# Altium footprint library Altium LCOGT PCB LIB.PCBLIB: 329 footprints (part 19 of 21)
Each footprint in its own frame and in the unit in brackets; x right, y up, seen from the top. Pads: shape width x height; smd on the part's side, far side on the other; paste and mask are expansions set on the pad; w line width, h text height; cw(c..) or ccw(c..) is an arc to the next point about the centre after c.
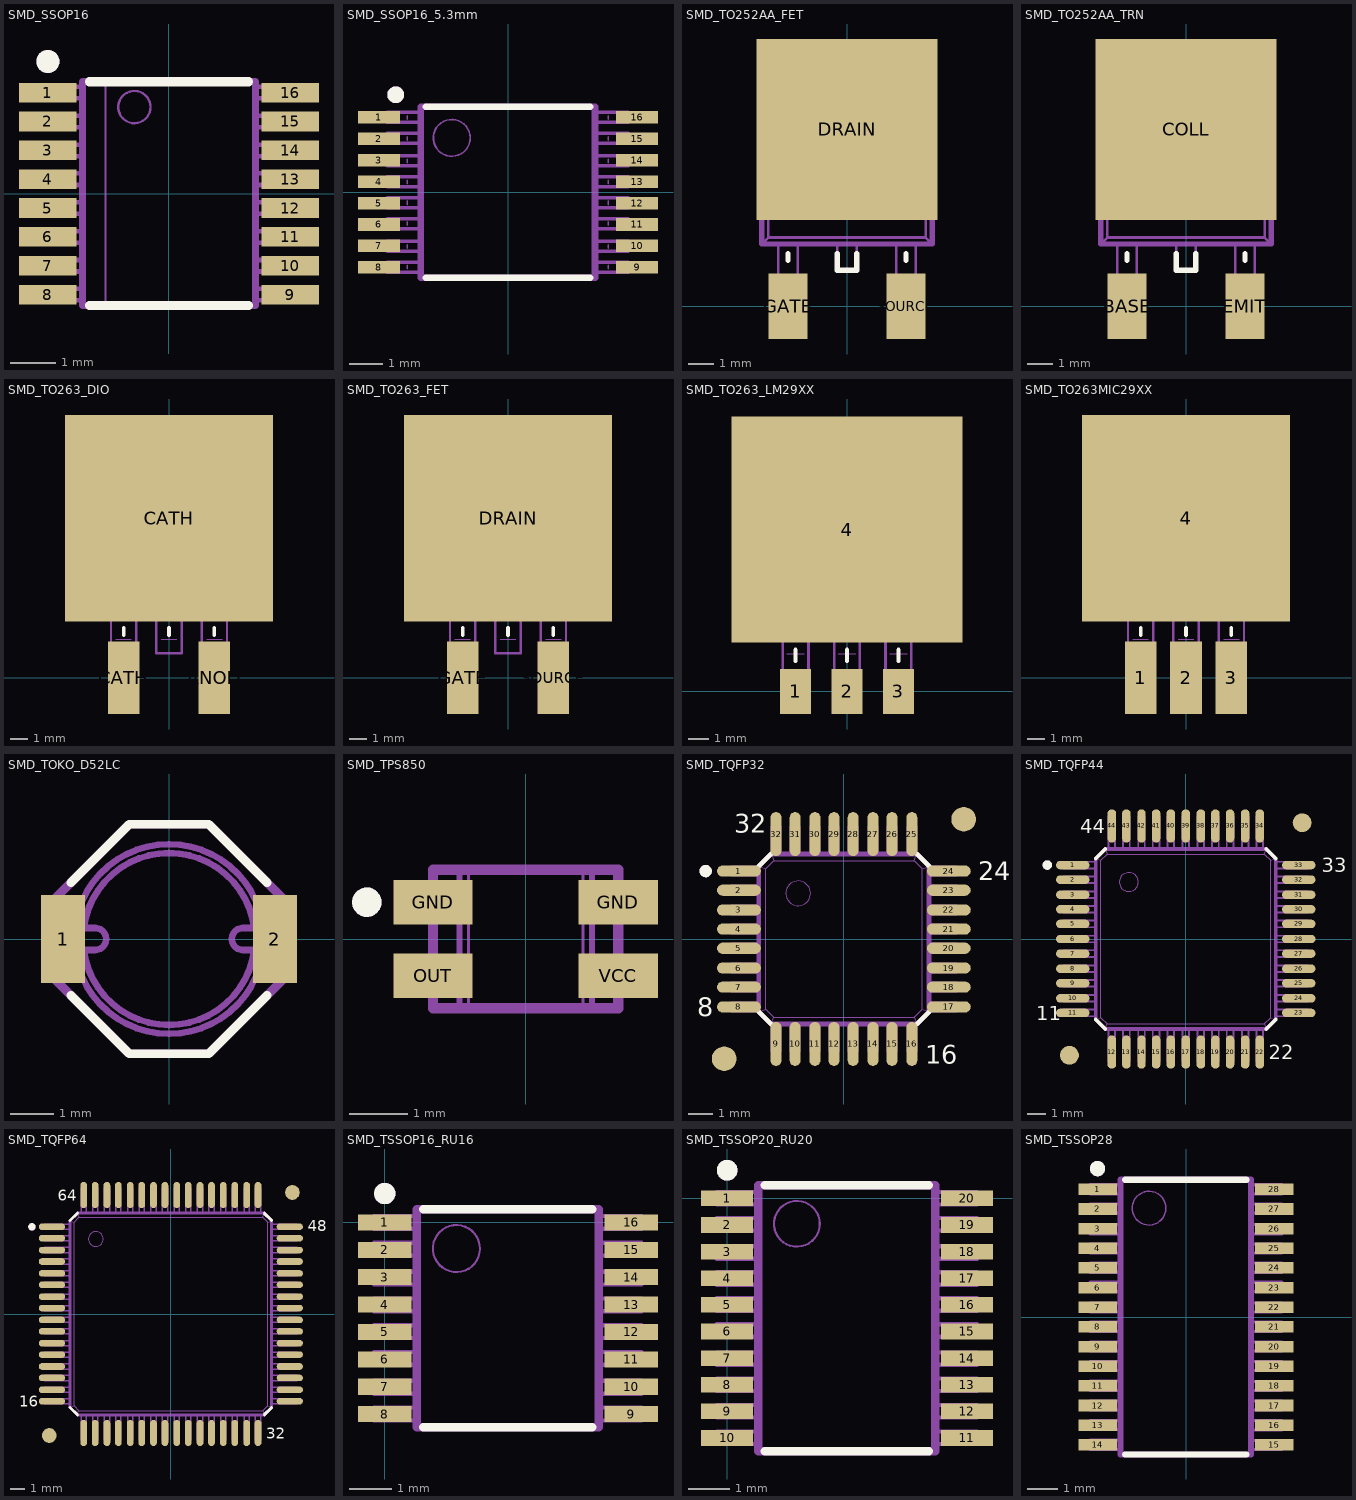
[diagram p18: the footprints below, top view; thin cyan lines are the x and y axes]

## SMD_SSOP16 [mil]
pads (16):
  rect 50x17 smd: 1(-105,87.5) 2(-105,62.5) 3(-105,37.5) 4(-105,12.5) 5(-105,-12.5) 6(-105,-37.5) 7(-105,-62.5) 8(-105,-87.5) 9(105,-87.5) 10(105,-62.5) 11(105,-37.5) 12(105,-12.5) 13(105,12.5) 14(105,37.5) 15(105,62.5) 16(105,87.5)
TopOverlay:
  circle w8: c-105,114.5 r6
  lines w8: -109,114.5 -101,114.5 ; -105,110.5 -105,118.5 ; -69,-97 69,-97 ; -69,97 69,97
Mechanical3:
  circle w2: c-30,75 r14
  circle w8: c-105,114.5 r6
  lines w2: -103,-88.5 -103,-86.5 ; -103,-63.5 -103,-61.5 ; -103,-38.5 -103,-36.5 ; -103,-13.5 -103,-11.5 ; -103,11.5 -103,13.5 ; -103,36.5 -103,38.5 ; -103,61.5 -103,63.5 ; -103,86.5 -103,88.5 ; -91,-88.5 -91,-86.5 ; -91,-63.5 -91,-61.5 ; -91,-38.5 -91,-36.5 ; -91,-13.5 -91,-11.5 ; -91,11.5 -91,13.5 ; -91,36.5 -91,38.5 ; -91,61.5 -91,63.5 ; -91,86.5 -91,88.5 ; -55,-97 -55,97 ; 91,-88.5 91,-86.5 ; 91,-63.5 91,-61.5 ; 91,-38.5 91,-36.5 ; 91,-13.5 91,-11.5 ; 91,11.5 91,13.5 ; 91,36.5 91,38.5 ; 91,61.5 91,63.5 ; 91,86.5 91,88.5 ; 103,-88.5 103,-86.5 ; 103,-63.5 103,-61.5 ; 103,-38.5 103,-36.5 ; 103,-13.5 103,-11.5 ; 103,11.5 103,13.5 ; 103,36.5 103,38.5 ; 103,61.5 103,63.5 ; 103,86.5 103,88.5
  lines w4: -75,-92.5 -118,-92.5 -118,-82.5 -75,-82.5 ; -75,-67.5 -118,-67.5 -118,-57.5 -75,-57.5 ; -75,-42.5 -118,-42.5 -118,-32.5 -75,-32.5 ; -75,-17.5 -118,-17.5 -118,-7.5 -75,-7.5 ; -75,7.5 -118,7.5 -118,17.5 -75,17.5 ; -75,32.5 -118,32.5 -118,42.5 -75,42.5 ; -75,57.5 -118,57.5 -118,67.5 -75,67.5 ; -75,82.5 -118,82.5 -118,92.5 -75,92.5 ; 75,-92.5 118,-92.5 118,-82.5 75,-82.5 ; 75,-67.5 118,-67.5 118,-57.5 75,-57.5 ; 75,-42.5 118,-42.5 118,-32.5 75,-32.5 ; 75,-17.5 118,-17.5 118,-7.5 75,-7.5 ; 75,7.5 118,7.5 118,17.5 75,17.5 ; 75,32.5 118,32.5 118,42.5 75,42.5 ; 75,57.5 118,57.5 118,67.5 75,67.5 ; 75,82.5 118,82.5 118,92.5 75,92.5
  lines w6: -75,-97 -75,97 75,97 75,-97 -75,-97
  lines w8: -109,114.5 -101,114.5 ; -105,110.5 -105,118.5

## SMD_SSOP16_5.3mm [mil]
pads (16):
  rect 50x15 smd: 1(-154.16,89.57) 2(-154.16,63.98) 3(-154.16,38.39) 4(-154.16,12.8) 5(-154.16,-12.8) 6(-154.16,-38.39) 7(-154.16,-63.98) 8(-154.16,-89.57) 9(154.16,-89.57) 10(154.16,-63.98) 11(154.16,-38.39) 12(154.16,-12.79) 13(154.16,12.79) 14(154.16,38.39) 15(154.16,63.98) 16(154.16,89.57)
TopOverlay:
  circle w8: c-134.16,116.57 r6
  lines w8: -138.16,116.57 -130.16,116.57 ; -134.16,112.57 -134.16,120.57 ; -98.16,-101.93 97.84,-101.93 ; -98.16,102.07 97.84,102.07
Mechanical3:
  circle w2: c-67.16,65.07 r22
  circle w8: c-134.16,116.57 r6
  lines w2: -131.16,-91.43 -131.16,-87.43 ; -131.16,-66.43 -131.16,-62.43 ; -131.16,-39.43 -131.16,-35.43 ; -131.16,-14.43 -131.16,-10.43 ; -131.16,10.57 -131.16,14.57 ; -131.16,35.57 -131.16,39.57 ; -131.16,62.57 -131.16,66.57 ; -131.16,87.57 -131.16,91.57 ; -120.16,-91.43 -120.16,-87.43 ; -120.16,-66.43 -120.16,-62.43 ; -120.16,-39.43 -120.16,-35.43 ; -120.16,-14.43 -120.16,-10.43 ; -120.16,10.57 -120.16,14.57 ; -120.16,35.57 -120.16,39.57 ; -120.16,62.57 -120.16,66.57 ; -120.16,87.57 -120.16,91.57 ; 119.84,-91.43 119.84,-87.43 ; 119.84,-66.43 119.84,-62.43 ; 119.84,-39.43 119.84,-35.43 ; 119.84,-14.43 119.84,-10.43 ; 119.84,10.57 119.84,14.57 ; 119.84,35.57 119.84,39.57 ; 119.84,62.57 119.84,66.57 ; 119.84,87.57 119.84,91.57 ; 130.84,-91.43 130.84,-87.43 ; 130.84,-66.43 130.84,-62.43 ; 130.84,-39.43 130.84,-35.43 ; 130.84,-14.43 130.84,-10.43 ; 130.84,10.57 130.84,14.57 ; 130.84,35.57 130.84,39.57 ; 130.84,62.57 130.84,66.57 ; 130.84,87.57 130.84,91.57
  lines w4: -104.16,-95.43 -144.16,-95.43 -144.16,-83.43 -104.16,-83.43 ; -104.16,-70.43 -144.16,-70.43 -144.16,-58.43 -104.16,-58.43 ; -104.16,-43.43 -144.16,-43.43 -144.16,-31.43 -104.16,-31.43 ; -104.16,-18.43 -144.16,-18.43 -144.16,-6.43 -104.16,-6.43 ; -104.16,6.57 -144.16,6.57 -144.16,18.57 -104.16,18.57 ; -104.16,31.57 -144.16,31.57 -144.16,43.57 -104.16,43.57 ; -104.16,58.57 -144.16,58.57 -144.16,70.57 -104.16,70.57 ; -104.16,83.57 -144.16,83.57 -144.16,95.57 -104.16,95.57 ; 103.84,-95.43 143.84,-95.43 143.84,-83.43 103.84,-83.43 ; 103.84,-70.43 143.84,-70.43 143.84,-58.43 103.84,-58.43 ; 103.84,-43.43 143.84,-43.43 143.84,-31.43 103.84,-31.43 ; 103.84,-18.43 143.84,-18.43 143.84,-6.43 103.84,-6.43 ; 103.84,6.57 143.84,6.57 143.84,18.57 103.84,18.57 ; 103.84,31.57 143.84,31.57 143.84,43.57 103.84,43.57 ; 103.84,58.57 143.84,58.57 143.84,70.57 103.84,70.57 ; 103.84,83.57 143.84,83.57 143.84,95.57 103.84,95.57
  lines w8: -138.16,116.57 -130.16,116.57 ; -134.16,112.57 -134.16,120.57 ; -104.16,-101.93 -61.66,-101.93 61.34,-101.93 103.84,-101.93 103.84,102.07 -104.16,102.07 -104.16,-101.93

## SMD_TO252AA_FET [mil]
pads (3):
  rect 276x276 smd: DRAIN(0,270)
  rect 60x100 smd: GATE(-90,0) SOURCE(90,0)
TopOverlay:
  lines w8: -90,70 -90,80 ; -15,80 -15,55 15,55 15,80 ; 90,70 90,80
Mechanical3:
  lines w4: -130,95 -120,105 ; -130,310 -120,305 ; -105,95 -105,40 -110,35 -110,15 -105,10 -105,-10 -75,-10 -75,10 -70,15 -70,35 -75,40 -75,95 ; -105,335 -100,325 ; -15,95 -15,55 15,55 15,95 ; 75,95 75,40 70,35 70,15 75,10 75,-10 105,-10 105,10 110,15 110,35 105,40 105,95 ; 105,335 100,325 ; 130,95 120,105 ; 130,310 120,305 ; -120,105 120,105 ; -120,105 -120,305 ; -120,305 -100,325 ; -100,325 100,325 ; 100,325 120,305 ; 120,105 120,305
  lines w8: -105,335 -105,360 -75,380 75,380 105,360 105,335 ; -105,335 105,335 ; -105,335 -130,310 -130,95 130,95 130,310 105,335

## SMD_TO252AA_TRN [mil]
pads (3):
  rect 60x100 smd: BASE(-90,0) EMIT(90,0)
  rect 276x276 smd: COLL(0,270)
TopOverlay:
  lines w8: -90,70 -90,80 ; -15,80 -15,55 15,55 15,80 ; 90,70 90,80
Mechanical3:
  lines w4: -130,95 -120,105 ; -130,310 -120,305 ; -105,95 -105,40 -110,35 -110,15 -105,10 -105,-10 -75,-10 -75,10 -70,15 -70,35 -75,40 -75,95 ; -105,335 -100,325 ; -15,95 -15,55 15,55 15,95 ; 75,95 75,40 70,35 70,15 75,10 75,-10 105,-10 105,10 110,15 110,35 105,40 105,95 ; 105,335 100,325 ; 130,95 120,105 ; 130,310 120,305 ; -120,105 -120,305 ; -120,105 120,105 ; -120,305 -100,325 ; -100,325 100,325 ; 100,325 120,305 ; 120,105 120,305
  lines w8: -105,335 -130,310 -130,95 130,95 130,310 105,335 ; -105,335 105,335 ; -105,335 -105,360 -75,380 75,380 105,360 105,335

## SMD_TO263_DIO [mil]
pads (3):
  rect 70x160 smd: ANOD(100,0) CATH(-100,0)
  rect 460x456 smd: CATH(0,352)
TopOverlay:
  lines w8: -100,94 -100,110 ; 0,94 0,110 ; 100,94 100,110
Mechanical3:
  lines w2: -117,30 -83,30 ; -117,85 -83,85 ; -17,85 17,85 ; 83,30 117,30 ; 83,85 117,85
  lines w5: -128,145 -128,-25 -117,-25 -117,-60 -83,-60 -83,-25 -72,-25 -72,145 ; -28,145 -28,54 28,54 ; 28,53.74 28,145 ; 72,145 72,-25 83,-25 83,-60 117,-60 117,-25 128,-25 128,145
  lines w6: -205,505 -185,480 ; -185,145 -185,480 ; 185,145 185,480 ; 205,505 185,480 ; -185,480 185,480
  lines w10: -205,505 205,505 ; -205,145 -205,525 -140,555 140,555 205,525 205,145 -205,145

## SMD_TO263_FET [mil]
pads (3):
  rect 460x456 smd: DRAIN(0,352)
  rect 70x160 smd: GATE(-100,0) SOURCE(100,0)
TopOverlay:
  lines w8: -100,94 -100,110 ; 0,94 0,110 ; 100,94 100,110
Mechanical3:
  lines w2: -117,30 -83,30 ; -117,85 -83,85 ; -17,85 17,85 ; 83,30 117,30 ; 83,85 117,85
  lines w5: -128,145 -128,-25 -117,-25 -117,-60 -83,-60 -83,-25 -72,-25 -72,145 ; -28,145 -28,54 28,54 ; 28,53.74 28,145 ; 72,145 72,-25 83,-25 83,-60 117,-60 117,-25 128,-25 128,145
  lines w6: -205,505 -185,480 ; -185,145 -185,480 ; 185,145 185,480 ; 205,505 185,480 ; -185,480 185,480
  lines w10: -205,505 205,505 ; -205,145 205,145 205,525 140,555 -140,555 -205,525 -205,145

## SMD_TO263_LM29XX [mil]
pads (4):
  rect 60x88 smd: 1(-100,0) 2(0,0) 3(100,0)
  rect 450x440 smd: 4(0,315)
TopOverlay:
  lines w8: -100,59 -100,81 ; 0,59 0,81 ; 100,59 100,81
Mechanical3:
  lines w2: -117,33 -83,33 ; -117,73 -83,73 ; -17,33 17,33 ; -17,73 17,73 ; 83,33 117,33 ; 83,73 117,73
  lines w5: -125,115 -125,33 -117,25 -117,-32 -83,-32 -83,25 -75,33 -75,115 ; -25,115 -25,33 -17,25 -17,-32 17,-32 17,25 25,33 25,115 ; 75,115 75,33 83,25 83,-32 117,-32 117,25 125,33 125,115
  lines w6: -200,445 -182,429 ; -182,115 -182,429 ; 182,115 182,429 ; 200,445 182,429 ; -182,429 182,429
  lines w10: -200,445 200,445 ; -200,115 200,115 200,480 125,510 -125,510 -200,480 -200,115

## SMD_TO263MIC29XX [mil]
pads (4):
  rect 70x160 smd: 1(-100,0) 2(0,0) 3(100,0)
  rect 460x456 smd: 4(0,352)
TopOverlay:
  lines w8: -100,94 -100,110 ; 0,94 0,110 ; 100,94 100,110
Mechanical3:
  lines w2: -117,30 -83,30 ; -117,85 -83,85 ; -17,30 17,30 ; -17,85 17,85 ; 83,30 117,30 ; 83,85 117,85
  lines w5: -128,145 -128,-25 -117,-25 -117,-60 -83,-60 -83,-25 -72,-25 -72,145 ; -28,145 -28,-25 -17,-25 -17,-60 17,-60 17,-25 28,-25 28,145 ; 72,145 72,-25 83,-25 83,-60 117,-60 117,-25 128,-25 128,145
  lines w6: -205,505 -185,480 ; -185,145 -185,480 ; 185,145 185,480 ; 205,505 185,480 ; -185,480 185,480
  lines w10: -205,505 205,505 ; -205,145 205,145 205,525 140,555 -140,555 -205,525 -205,145

## SMD_TOKO_D52LC [mil]
pads (2):
  rect 40x80 smd: 1(-96,0) 2(96,0)
TopOverlay:
  lines w8: -89,-51 -36,-104 36,-104 89,-51 ; -89,51 -36,104 36,104 89,51
Mechanical3:
  lines w6: -104,-34 -79,-34 ccw(c0,0) 78.99,-34.02 104,-34 ; -104,34 -79,34 cw(c0,0) 78.99,34.02 104,34 ; -77.37,-9.91 ccw(c0,0) 77.37,-9.91 ; -77.37,9.91 cw(c0,0) 77.37,9.91 ; -77,-10 -67,-10 ccw(c-67,0) -67,10 -77,10 ; 77,-10 67,-10 cw(c67,0) 67,10 77,10 ; -104,-30 -84,-30 -84,30 -104,30 -104,-30 ; 84,-30 104,-30 104,30 84,30 84,-30
  lines w8: -104,-34 -104,-36 -36,-104 36,-104 104,-36 104,-34 ; -104,34 -104,36 -36,104 36,104 104,36 104,34

## SMD_TPS850 [mil]
pads (4):
  rect 54x30 smd: GND(-63,25) GND(63,25) OUT(-63,-25) VCC(63,-25)
TopOverlay:
  circle w8: c-108,25 r6
  lines w8: -112,25 -104,25 ; -108,21 -108,29
Mechanical3:
  circle w8: c-108,25 r6
  lines w2: -39,-47 -39,47 ; 39,-47 39,47
  lines w4: -45,-47 -45,47 ; 45,-47 45,47
  lines w7: -63,-33 -63,-47 63,-47 63,-33 ; -63,-32.5 ccw(c-63,-25) -63,-17.5 -63,17.5 ccw(c-63,25) -63,32.5 ; -63,33 -63,47 63,47 63,33 ; 63,-32.5 cw(c63,-25) 63,-17.5 63,17.5 cw(c63,25) 63,32.5
  lines w8: -112,25 -104,25 ; -108,21 -108,29

## SMD_TQFP32 [mil]
pads (34):
  oval 71x18 smd: 1(-170,110) 2(-170,79) 3(-170,47) 4(-170,16) 5(-170,-15) 6(-170,-47) 7(-170,-78) 8(-170,-110) 17(170,-110) 18(170,-78) 19(170,-47) 20(170,-15) 21(170,16) 22(170,47) 23(170,79) 24(170,110)
  oval 18x71 smd: 9(-110,-170) 10(-79,-170) 11(-47,-170) 12(-16,-170) 13(15,-170) 14(47,-170) 15(78,-170) 16(110,-170) 25(110,170) 26(78,170) 27(47,170) 28(15,170) 29(-16,170) 30(-47,170) 31(-79,170) 32(-110,170)
  round 40 smd: ""(-194,-194) ""(194,194)
TopOverlay:
  circle w8: c-224,110 r6
  lines w8: -228,110 -220,110 ; -224,106 -224,114 ; -138,-118 -118,-138 ; -138,118 -118,138 ; 118,-138 138,-118 ; 118,138 138,118
  text "32" at -178,172 h30
  text "16" at 132,-202 h30
  text "24" at 218,95 h30
  text "8" at -238,-125 h30
Mechanical3:
  drawing of 188 lines, arcs and shapes, not listed

## SMD_TQFP44 [mil]
pads (46):
  oval 71x18 smd: 1(-240,157) 2(-240,126) 3(-240,94) 4(-240,63) 5(-240,32) 6(-240,0) 7(-240,-31) 8(-240,-63) 9(-240,-94) 10(-240,-126) 11(-240,-157) 23(240,-157) 24(240,-126) 25(240,-94) 26(240,-63) 27(240,-31) 28(240,0) 29(240,32) 30(240,63) 31(240,94) 32(240,126) 33(240,157)
  oval 18x71 smd: 12(-157,-240) 13(-126,-240) 14(-94,-240) 15(-63,-240) 16(-32,-240) 17(0,-240) 18(32,-240) 19(63,-240) 20(94,-240) 21(126,-240) 22(157,-240) 34(157,240) 35(126,240) 36(94,240) 37(63,240) 38(32,240) 39(0,240) 40(-32,240) 41(-63,240) 42(-94,240) 43(-126,240) 44(-157,240)
  round 40 smd: ""(-247,-247) ""(247,247)
TopOverlay:
  circle w8: c-294,157 r6
  lines w8: -298,157 -290,157 ; -294,153 -294,161 ; -191,-171 -171,-191 ; -191,171 -171,191 ; 171,-191 191,-171 ; 171,191 191,171
  text "44" at -224,225 h30
  text "22" at 176,-255 h30
  text "33" at 289,142 h30
  text "11" at -318,-172 h30
Mechanical3:
  drawing of 248 lines, arcs and shapes, not listed

## SMD_TQFP64 [mil]
pads (66):
  oval 71x18 smd: 1(-322,236) 2(-322,205) 3(-322,173) 4(-322,142) 5(-322,110) 6(-322,79) 7(-322,47) 8(-322,16) 9(-322,-16) 10(-322,-47) 11(-322,-79) 12(-322,-110) 13(-322,-142) 14(-322,-173) 15(-322,-205) 16(-322,-236) 33(322,-236) 34(322,-205) 35(322,-173) 36(322,-142) 37(322,-110) 38(322,-79) 39(322,-47) 40(322,-16) 41(322,16) 42(322,47) 43(322,79) 44(322,110) 45(322,142) 46(322,173) 47(322,205) 48(322,236)
  oval 18x71 smd: 17(-236,-322) 18(-205,-322) 19(-173,-322) 20(-142,-322) 21(-110,-322) 22(-79,-322) 23(-47,-322) 24(-16,-322) 25(16,-322) 26(47,-322) 27(79,-322) 28(110,-322) 29(142,-322) 30(173,-322) 31(205,-322) 32(236,-322) 49(236,322) 50(205,322) 51(173,322) 52(142,322) 53(110,322) 54(79,322) 55(47,322) 56(16,322) 57(-16,322) 58(-47,322) 59(-79,322) 60(-110,322) 61(-142,322) 62(-173,322) 63(-205,322) 64(-236,322)
  round 40 smd: ""(-329,-329) ""(329,329)
TopOverlay:
  circle w8: c-376,236 r6
  lines w8: -380,236 -372,236 ; -376,232 -376,240 ; -273,-253 -253,-273 ; -273,253 -253,273 ; 253,-273 273,-253 ; 253,273 273,253
  text "16" at -411,-251 h30
  text "48" at 371,224 h30
  text "32" at 258,-337 h30
  text "64" at -306,307 h30
Mechanical3:
  drawing of 348 lines, arcs and shapes, not listed

## SMD_TSSOP16_RU16 [mm]
pads (16):
  rect 1.27x0.381 smd: 1(0,0) 2(0,-0.65) 3(0,-1.3) 4(0,-1.95) 5(0,-2.6) 6(0,-3.25) 7(0,-3.9) 8(0,-4.55) 9(5.85,-4.55) 10(5.85,-3.9) 11(5.85,-3.25) 12(5.85,-2.6) 13(5.85,-1.95) 14(5.85,-1.3) 15(5.85,-0.65) 16(5.85,0)
TopOverlay:
  circle w0.203: c0,0.686 r0.152
  lines w0.203: -0.102,0.686 0.102,0.686 ; 0,0.584 0,0.787 ; 0.914,-4.864 4.928,-4.864 ; 0.914,0.318 4.928,0.318
Mechanical3:
  circle w0.051: c1.702,-0.622 r0.559
  circle w0.203: c0,0.686 r0.152
  lines w0.051: 0.076,-4.597 0.076,-4.496 ; 0.076,-3.962 0.076,-3.861 ; 0.076,-3.277 0.076,-3.175 ; 0.076,-2.642 0.076,-2.54 ; 0.076,-2.007 0.076,-1.905 ; 0.076,-1.372 0.076,-1.27 ; 0.076,-0.686 0.076,-0.584 ; 0.076,-0.051 0.076,0.051 ; 0.356,-4.597 0.356,-4.496 ; 0.356,-3.962 0.356,-3.861 ; 0.356,-3.277 0.356,-3.175 ; 0.356,-2.642 0.356,-2.54 ; 0.356,-2.007 0.356,-1.905 ; 0.356,-1.372 0.356,-1.27 ; 0.356,-0.686 0.356,-0.584 ; 0.356,-0.051 0.356,0.051 ; 5.486,-4.597 5.486,-4.496 ; 5.486,-3.962 5.486,-3.861 ; 5.486,-3.277 5.486,-3.175 ; 5.486,-2.642 5.486,-2.54 ; 5.486,-2.007 5.486,-1.905 ; 5.486,-1.372 5.486,-1.27 ; 5.486,-0.686 5.486,-0.584 ; 5.486,-0.051 5.486,0.051 ; 5.766,-4.597 5.766,-4.496 ; 5.766,-3.962 5.766,-3.861 ; 5.766,-3.277 5.766,-3.175 ; 5.766,-2.642 5.766,-2.54 ; 5.766,-2.007 5.766,-1.905 ; 5.766,-1.372 5.766,-1.27 ; 5.766,-0.686 5.766,-0.584 ; 5.766,-0.051 5.766,0.051
  lines w0.102: 0.762,-4.699 -0.254,-4.699 -0.254,-4.394 0.762,-4.394 ; 0.762,-4.064 -0.254,-4.064 -0.254,-3.759 0.762,-3.759 ; 0.762,-3.378 -0.254,-3.378 -0.254,-3.073 0.762,-3.073 ; 0.762,-2.743 -0.254,-2.743 -0.254,-2.438 0.762,-2.438 ; 0.762,-2.108 -0.254,-2.108 -0.254,-1.803 0.762,-1.803 ; 0.762,-1.473 -0.254,-1.473 -0.254,-1.168 0.762,-1.168 ; 0.762,-0.787 -0.254,-0.787 -0.254,-0.483 0.762,-0.483 ; 0.762,-0.152 -0.254,-0.152 -0.254,0.152 0.762,0.152 ; 5.08,-4.699 6.096,-4.699 6.096,-4.394 5.08,-4.394 ; 5.08,-4.064 6.096,-4.064 6.096,-3.759 5.08,-3.759 ; 5.08,-3.378 6.096,-3.378 6.096,-3.073 5.08,-3.073 ; 5.08,-2.743 6.096,-2.743 6.096,-2.438 5.08,-2.438 ; 5.08,-2.108 6.096,-2.108 6.096,-1.803 5.08,-1.803 ; 5.08,-1.473 6.096,-1.473 6.096,-1.168 5.08,-1.168 ; 5.08,-0.787 6.096,-0.787 6.096,-0.483 5.08,-0.483 ; 5.08,-0.152 6.096,-0.152 6.096,0.152 5.08,0.152
  lines w0.203: -0.102,0.686 0.102,0.686 ; 0,0.584 0,0.787 ; 0.762,-4.864 5.08,-4.864 5.08,0.318 0.762,0.318 0.762,-4.864

## SMD_TSSOP20_RU20 [mm]
pads (20):
  rect 1.27x0.381 smd: 1(0,0) 2(0,-0.65) 3(0,-1.3) 4(0,-1.95) 5(0,-2.6) 6(0,-3.25) 7(0,-3.9) 8(0,-4.55) 9(0,-5.2) 10(0,-5.85) 11(5.85,-5.85) 12(5.85,-5.2) 13(5.85,-4.55) 14(5.85,-3.9) 15(5.85,-3.25) 16(5.85,-2.6) 17(5.85,-1.95) 18(5.85,-1.3) 19(5.85,-0.65) 20(5.85,0)
TopOverlay:
  circle w0.203: c0,0.686 r0.152
  lines w0.203: -0.102,0.686 0.102,0.686 ; 0,0.584 0,0.787 ; 0.914,-6.172 4.928,-6.172 ; 0.914,0.318 4.928,0.318
Mechanical3:
  circle w0.203: c0,0.686 r0.152
  circle w0.051: c1.702,-0.622 r0.559
  lines w0.051: 0.076,-5.897 0.076,-5.796 ; 0.076,-5.247 0.076,-5.146 ; 0.076,-4.597 0.076,-4.496 ; 0.076,-3.962 0.076,-3.861 ; 0.076,-3.277 0.076,-3.175 ; 0.076,-2.642 0.076,-2.54 ; 0.076,-2.007 0.076,-1.905 ; 0.076,-1.372 0.076,-1.27 ; 0.076,-0.686 0.076,-0.584 ; 0.076,-0.051 0.076,0.051 ; 0.356,-5.897 0.356,-5.796 ; 0.356,-5.247 0.356,-5.146 ; 0.356,-4.597 0.356,-4.496 ; 0.356,-3.962 0.356,-3.861 ; 0.356,-3.277 0.356,-3.175 ; 0.356,-2.642 0.356,-2.54 ; 0.356,-2.007 0.356,-1.905 ; 0.356,-1.372 0.356,-1.27 ; 0.356,-0.686 0.356,-0.584 ; 0.356,-0.051 0.356,0.051 ; 5.486,-5.897 5.486,-5.796 ; 5.486,-5.247 5.486,-5.146 ; 5.486,-4.597 5.486,-4.496 ; 5.486,-3.962 5.486,-3.861 ; 5.486,-3.277 5.486,-3.175 ; 5.486,-2.642 5.486,-2.54 ; 5.486,-2.007 5.486,-1.905 ; 5.486,-1.372 5.486,-1.27 ; 5.486,-0.686 5.486,-0.584 ; 5.486,-0.051 5.486,0.051 ; 5.766,-5.897 5.766,-5.796 ; 5.766,-5.247 5.766,-5.146 ; 5.766,-4.597 5.766,-4.496 ; 5.766,-3.962 5.766,-3.861 ; 5.766,-3.277 5.766,-3.175 ; 5.766,-2.642 5.766,-2.54 ; 5.766,-2.007 5.766,-1.905 ; 5.766,-1.372 5.766,-1.27 ; 5.766,-0.686 5.766,-0.584 ; 5.766,-0.051 5.766,0.051
  lines w0.102: 0.762,-5.999 -0.254,-5.999 -0.254,-5.694 0.762,-5.694 ; 0.762,-5.349 -0.254,-5.349 -0.254,-5.044 0.762,-5.044 ; 0.762,-4.699 -0.254,-4.699 -0.254,-4.394 0.762,-4.394 ; 0.762,-4.064 -0.254,-4.064 -0.254,-3.759 0.762,-3.759 ; 0.762,-3.378 -0.254,-3.378 -0.254,-3.073 0.762,-3.073 ; 0.762,-2.743 -0.254,-2.743 -0.254,-2.438 0.762,-2.438 ; 0.762,-2.108 -0.254,-2.108 -0.254,-1.803 0.762,-1.803 ; 0.762,-1.473 -0.254,-1.473 -0.254,-1.168 0.762,-1.168 ; 0.762,-0.787 -0.254,-0.787 -0.254,-0.483 0.762,-0.483 ; 0.762,-0.152 -0.254,-0.152 -0.254,0.152 0.762,0.152 ; 5.08,-5.999 6.096,-5.999 6.096,-5.694 5.08,-5.694 ; 5.08,-5.349 6.096,-5.349 6.096,-5.044 5.08,-5.044 ; 5.08,-4.699 6.096,-4.699 6.096,-4.394 5.08,-4.394 ; 5.08,-4.064 6.096,-4.064 6.096,-3.759 5.08,-3.759 ; 5.08,-3.378 6.096,-3.378 6.096,-3.073 5.08,-3.073 ; 5.08,-2.743 6.096,-2.743 6.096,-2.438 5.08,-2.438 ; 5.08,-2.108 6.096,-2.108 6.096,-1.803 5.08,-1.803 ; 5.08,-1.473 6.096,-1.473 6.096,-1.168 5.08,-1.168 ; 5.08,-0.787 6.096,-0.787 6.096,-0.483 5.08,-0.483 ; 5.08,-0.152 6.096,-0.152 6.096,0.152 5.08,0.152
  lines w0.203: -0.102,0.686 0.102,0.686 ; 0,0.584 0,0.787 ; 0.762,0.305 0.762,-6.172 5.08,-6.172 5.08,0.305 ; 0.762,0.318 5.08,0.318

## SMD_TSSOP28 [mm]
pads (28):
  rect 1.27x0.381 smd: 1(-2.925,4.225) 2(-2.925,3.575) 3(-2.925,2.925) 4(-2.925,2.275) 5(-2.925,1.625) 6(-2.925,0.975) 7(-2.925,0.325) 8(-2.925,-0.325) 9(-2.925,-0.975) 10(-2.925,-1.625) 11(-2.925,-2.275) 12(-2.925,-2.925) 13(-2.925,-3.575) 14(-2.925,-4.225) 15(2.925,-4.225) 16(2.925,-3.575) 17(2.925,-2.925) 18(2.925,-2.275) 19(2.925,-1.625) 20(2.925,-0.975) 21(2.925,-0.325) 22(2.925,0.325) 23(2.925,0.975) 24(2.925,1.625) 25(2.925,2.275) 26(2.925,2.925) 27(2.925,3.575) 28(2.925,4.225)
TopOverlay:
  circle w0.203: c-2.925,4.911 r0.152
  lines w0.203: -3.027,4.911 -2.823,4.911 ; -2.925,4.809 -2.925,5.012 ; -2.011,-4.547 2.003,-4.547 ; -2.011,4.543 2.003,4.543
Mechanical3:
  circle w0.203: c-2.925,4.911 r0.152
  circle w0.051: c-1.223,3.603 r0.559
  lines w0.051: -2.849,-4.272 -2.849,-4.171 ; -2.849,-3.622 -2.849,-3.521 ; -2.849,-2.972 -2.849,-2.871 ; -2.849,-2.322 -2.849,-2.221 ; -2.849,-1.672 -2.849,-1.571 ; -2.849,-1.022 -2.849,-0.921 ; -2.849,-0.372 -2.849,-0.271 ; -2.849,0.263 -2.849,0.364 ; -2.849,0.948 -2.849,1.05 ; -2.849,1.583 -2.849,1.685 ; -2.849,2.218 -2.849,2.32 ; -2.849,2.853 -2.849,2.955 ; -2.849,3.539 -2.849,3.641 ; -2.849,4.174 -2.849,4.276 ; -2.569,-4.272 -2.569,-4.171 ; -2.569,-3.622 -2.569,-3.521 ; -2.569,-2.972 -2.569,-2.871 ; -2.569,-2.322 -2.569,-2.221 ; -2.569,-1.672 -2.569,-1.571 ; -2.569,-1.022 -2.569,-0.921 ; -2.569,-0.372 -2.569,-0.271 ; -2.569,0.263 -2.569,0.364 ; -2.569,0.948 -2.569,1.05 ; -2.569,1.583 -2.569,1.685 ; -2.569,2.218 -2.569,2.32 ; -2.569,2.853 -2.569,2.955 ; -2.569,3.539 -2.569,3.641 ; -2.569,4.174 -2.569,4.276 ; 2.561,-1.672 2.561,-1.571 ; 2.561,-1.022 2.561,-0.921 ; 2.561,-0.372 2.561,-0.271 ; 2.561,0.263 2.561,0.364 ; 2.561,0.948 2.561,1.05 ; 2.561,1.583 2.561,1.685 ; 2.561,2.218 2.561,2.32 ; 2.561,2.853 2.561,2.955 ; 2.561,3.539 2.561,3.641 ; 2.561,4.174 2.561,4.276 ; 2.569,-4.279 2.569,-4.178 ; 2.569,-3.629 2.569,-3.528 ; 2.569,-2.979 2.569,-2.878 ; 2.569,-2.329 2.569,-2.228 ; 2.841,-1.672 2.841,-1.571 ; 2.841,-1.022 2.841,-0.921 ; 2.841,-0.372 2.841,-0.271 ; 2.841,0.263 2.841,0.364 ; 2.841,0.948 2.841,1.05 ; 2.841,1.583 2.841,1.685 ; 2.841,2.218 2.841,2.32 ; 2.841,2.853 2.841,2.955 ; 2.841,3.539 2.841,3.641 ; 2.841,4.174 2.841,4.276 ; 2.849,-4.279 2.849,-4.178 ; 2.849,-3.629 2.849,-3.528 ; 2.849,-2.979 2.849,-2.878 ; 2.849,-2.329 2.849,-2.228
  lines w0.102: -2.163,-4.374 -3.179,-4.374 -3.179,-4.069 -2.163,-4.069 ; -2.163,-3.724 -3.179,-3.724 -3.179,-3.419 -2.163,-3.419 ; -2.163,-3.074 -3.179,-3.074 -3.179,-2.769 -2.163,-2.769 ; -2.163,-2.424 -3.179,-2.424 -3.179,-2.119 -2.163,-2.119 ; -2.163,-1.774 -3.179,-1.774 -3.179,-1.469 -2.163,-1.469 ; -2.163,-1.124 -3.179,-1.124 -3.179,-0.819 -2.163,-0.819 ; -2.163,-0.474 -3.179,-0.474 -3.179,-0.169 -2.163,-0.169 ; -2.163,0.161 -3.179,0.161 -3.179,0.466 -2.163,0.466 ; -2.163,0.847 -3.179,0.847 -3.179,1.152 -2.163,1.152 ; -2.163,1.482 -3.179,1.482 -3.179,1.787 -2.163,1.787 ; -2.163,2.117 -3.179,2.117 -3.179,2.422 -2.163,2.422 ; -2.163,2.752 -3.179,2.752 -3.179,3.057 -2.163,3.057 ; -2.163,3.438 -3.179,3.438 -3.179,3.742 -2.163,3.742 ; -2.163,4.073 -3.179,4.073 -3.179,4.377 -2.163,4.377 ; 2.155,-1.774 3.171,-1.774 3.171,-1.469 2.155,-1.469 ; 2.155,-1.124 3.171,-1.124 3.171,-0.819 2.155,-0.819 ; 2.155,-0.474 3.171,-0.474 3.171,-0.169 2.155,-0.169 ; 2.155,0.161 3.171,0.161 3.171,0.466 2.155,0.466 ; 2.155,0.847 3.171,0.847 3.171,1.152 2.155,1.152 ; 2.155,1.482 3.171,1.482 3.171,1.787 2.155,1.787 ; 2.155,2.117 3.171,2.117 3.171,2.422 2.155,2.422 ; 2.155,2.752 3.171,2.752 3.171,3.057 2.155,3.057 ; 2.155,3.438 3.171,3.438 3.171,3.742 2.155,3.742 ; 2.155,4.073 3.171,4.073 3.171,4.377 2.155,4.377 ; 2.163,-4.381 3.179,-4.381 3.179,-4.076 2.163,-4.076 ; 2.163,-3.731 3.179,-3.731 3.179,-3.426 2.163,-3.426 ; 2.163,-3.081 3.179,-3.081 3.179,-2.776 2.163,-2.776 ; 2.163,-2.431 3.179,-2.431 3.179,-2.126 2.163,-2.126
  lines w0.203: -3.027,4.911 -2.823,4.911 ; -2.925,4.809 -2.925,5.012 ; -2.163,-4.547 2.155,-4.547 ; -2.163,-4.538 -2.163,-1.947 -2.163,4.53 ; -2.163,4.543 2.155,4.543 ; 2.155,-4.538 2.155,-1.947 2.155,4.53